# Altium schematic symbol library Power.SchLib: 9 symbols
Pins are listed as number, name and electrical type; pins without a type are passive.

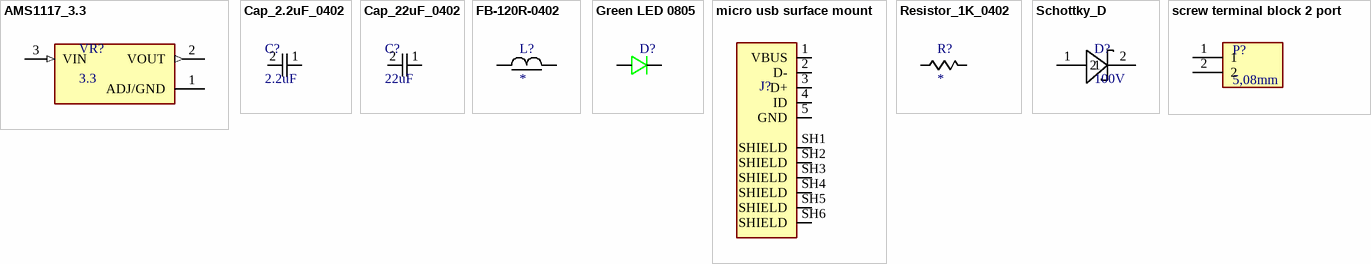
[diagram p0: symbols AMS1117_3.3 to screw terminal block 2 port]

## AMS1117_3.3
designator VR?, comment 3.3
72dB@(120Hz) 1A Fixed 3.3V Positive 16V SOT-223 Voltage Regulators - Linear, Low Drop Out (LDO) Regulators ROHS; Manufacturer: Advanced Monolithic Systems; Mfr. Part #: AMS1117-3.3; Splr.part#: C6186; Supplier: LCSC; ComponentLink1Description: New link; ComponentLink1URL: https://www.lcsc.com/product-detail/C6186.html?s_z=n_ASM1117
footprint SOT229P700X180-4N
pins: 1 ADJ/GND (power), 2 VOUT (out), 3 VIN (in)

## Cap_2.2uF_0402
designator C?, comment 2.2uF
CAP CER 2.2uF 16V X5R 0402; Manufacturer: Samsung Electro-Mechanics; Manufacturer Part #: CL05A225KO5NQNC; Supplier: LCSC; Supplier Part#: C170151; ComponentLink1Description: Data Sheet; ComponentLink1URL: https://www.lcsc.com/datasheet/C170151.pdf?spm=wm.sxq.inf.ggs___wm.fly.bg.3.stp&lcsc_vid=T1MKV1cAE1gLBAVfTgIKUgJfTlkPBQBVQlMMBAJURwAxVlNeT1dfVlxVQ1ReXzsOAxUeFF5JWBYZEEoKFBINSQcJGk4%3D
footprint CAPC1005X55N
pins: 1, 2

## Cap_22uF_0402
designator C?, comment 22uF
CAP CER 22uF 6.3V X5R 0402; Manufacturer: Samsung Electro-Mechanics; Manufacturer Part #: CL05A226MQ5QUNC; Supplier: LCSC; Supplier Part#: C105226; ComponentLink1Description: Data Sheet; ComponentLink1URL: https://www.lcsc.com/datasheet/C105226.pdf?spm=wm.sxq.inf.ggs___wm.fly.bg.3.stp&lcsc_vid=T1MKV1cAE1gLBAVfTgIKUgJfTlkPBQBVQlMMBAJURwAxVlNeT1dfVlxVQ1ReXzsOAxUeFF5JWBYZEEoKFBINSQcJGk4%3D
footprint CAPC1005X55N
pins: 1, 2

## FB-120R-0402
designator L?
FERRITE BEAD 120Ω 0402; Manufacturer: KOHERelec; Manufacturer Part#: FBHA0402-121-202R; Supplier: LCSC; Supplier Part#: C41355350; ComponentLink1Description: Data Sheet; ComponentLink1URL: https://www.lcsc.com/datasheet/C41355350.pdf?spm=wm.sxq.inf.ggs___wm.fly.bg.5.stp&lcsc_vid=T1MKV1cAE1gLBAVfTgIKUgJfTlkPBQBVQlMMBAJURwAxVlNeT1dcVldXR1JYUjsOAxUeFF5JWBYZEEoKFBINSQcJGk4NBhADEA4cHktXRlZeSQwSGg0%3D
footprint RESC1005X40N
pins: 1, 2

## Green LED 0805
designator D?
LED GREEN 0805 SMD; Manufacturer: NATIONSTAR; Manufacturer Part#: NCD0805G1; Supplier: LCSC; Supplier Part#: C84260; ComponentLink1Description: Data Sheet; ComponentLink1URL: https://www.lcsc.com/datasheet/C84260.pdf?spm=wm.sxq.inf.ggs___wm.fly.bg.0.stp&lcsc_vid=FVIKU1JeEVJYVVVSQVdZUQJSQlYKVAJXRwQLV1VXQlYxVlNeQVdfUV1TQ1ReXzsOAxUeFF5JWBYZEEoKFBINSQcJGk4NBhADEA4cHktXRlVcSQwSGg0%3D
footprint LED_APT2012MGC
pins: A, C

## micro usb surface mount
designator J?
MICRO USB, TYPE B,; Manufacturer: HMTCONN; Manufacturer Part#: HMT-MICRO USB 4P; Supplier: LCSC; Supplier Part#: C53121381; ComponentLink1Description: Data Sheet; ComponentLink1URL: https://www.lcsc.com/datasheet/C53121381.pdf?spm=wm.sxq.inf.ggs___wm.ssy.bg.2.stp&lcsc_vid=RlgPBF0EEVEPX1ZVRAVZVwcHRVJaBVJSTlNXAgBWFlkxVlNeQFFbX1NTQ1dfVzsOAxUeFF5JWBYZEEoKFBINSQcJGk4eFQsCAgIaSgADAwAHC0slT1VdUFJIHxUDCw%3D%3D
footprint TE_1981568-1
pins: 1 VBUS, 2 D-, 3 D+, 4 ID, 5 GND, SH1 SHIELD, SH2 SHIELD, SH3 SHIELD, SH4 SHIELD, SH5 SHIELD, SH6 SHIELD

## Resistor_1K_0402
designator R?
1kOhms Â±1% 0.063W, 1/16W Chip Resistor 0402 (1005 Metric) Moisture Resistant Thick Film; Manufacturer: FOJAN; Manufacturer Part #: RC0402FR-071KL; Supplier: LCSC; Supplier Part #: C106235; ComponentLink1Description: Data Sheet; ComponentLink1URL: https://www.lcsc.com/datasheet/C106235.pdf?spm=wm.sxq.inf.ggs___wm.fly.bg.2.stp&lcsc_vid=T1MKV1cAE1gLBAVfTgIKUgJfTlkPBQBVQlMMBAJURwAxVlNeT1dcVlJVRFlZVzsOAxUeFF5JWBYZEEoKFBINSQcJGk4NBhADEA4cHktXRlhXSQwSGg0%3D
footprint RESC1005X40N
pins: 1, 2

## Schottky_D
designator D?, comment 100V
100V 850mV@5A 5A SMAG Schottky Diodes ROHS; Manufacturer: Nexperia; Mfr. Part #: BAT54S,215; Splr.part#: C466506; Supplier: LCSC; ComponentLink1Description: New link; ComponentLink1URL: https://www.lcsc.com/product-detail/C466506.html?s_z=n_schottky%2520diode
footprint Schottky.D
pins: 1, 2

## screw terminal block 2 port
designator P?, comment 5,08mm
1x2P 18A -40℃~+105℃ 250V Green 14~30 Through Hole 5.08mm 2.5 1 2 Through Hole,P=5.08mm Screw Terminal Blocks ROHS; Manufacturer: KANGNEX; Mfr. Part #: WJ500V-5.08-2P; Splr.part#: C8465; Supplier: LCSC; ComponentLink1Description: New link; ComponentLink1URL: https://www.lcsc.com/product-detail/C8465.html
footprint Screw_terminal_block_5.0
pins: 1, 2